# Altium footprint library TP_1mm.PcbLib: 1 footprints
Each footprint in its own frame and in the unit in brackets; x right, y up, seen from the top. Pads: shape width x height; smd on the part's side, far side on the other; paste and mask are expansions set on the pad; w line width, h text height; cw(c..) or ccw(c..) is an arc to the next point about the centre after c.
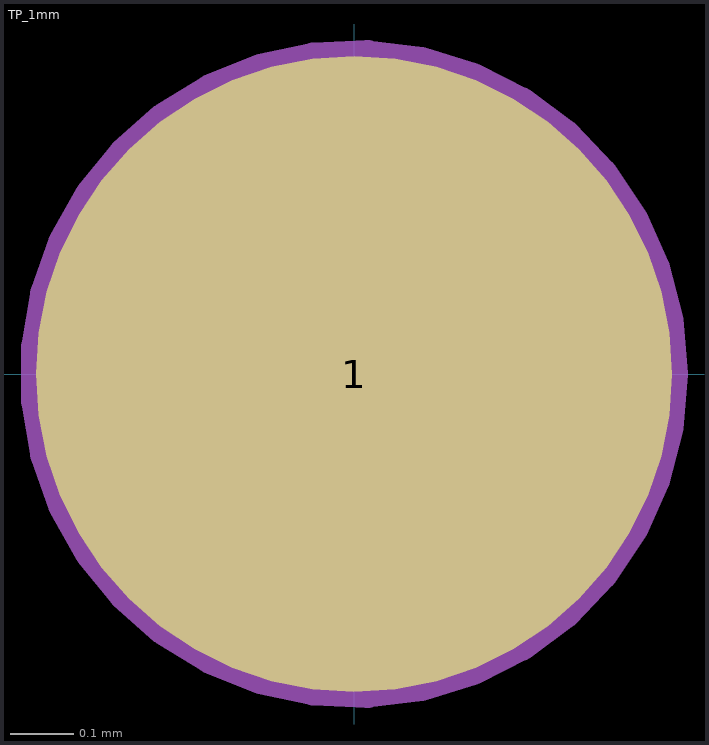
[diagram p0: the footprint, top view; thin cyan lines are the x and y axes]

## TP_1mm [mm]
pads (1):
  round 1 smd paste-0.5 mask+0: 1(0,0)
Mechanical 7:
  circle w0.05: c0,0 r0.5
Mechanical 9:
  text "'.Designator'" at -5.944,-0.271 h1.02
Mechanical 20:
  circle w0.05: c0,0 r0.5
3D body: height 0.01, standoff 0, extent -0.5,-0.5 0.5,0.5